# EAGLE library part ATMEGA2560 (library EXCISS)
ATmega2560 256 KB Program Memory 16 MIPS CPU Speed 8 KB RAM 4 KB Data EEPROM Digital Communication Peripherals 4-UART 5-SPI 1-I2C Capture/Compare/PWM Peripherals 4 Input Capture 4 CCP 16PWM Timers 2 x 8-bit 4 x 16-bit 1 Comparator -40°C to 85°C Temperature Range 1.8V to 5.5V Operating Voltage Range Links Datasheet <http://ww1.microchip.com/downloads/en/DeviceDoc/Atmel-2549-8-bit-AVR-Microcontroller-ATmega640-1280-1281-2560-2561_datasheet.pdf> Product website <https://www.microchip.com/wwwproducts/en/ATmega2560>
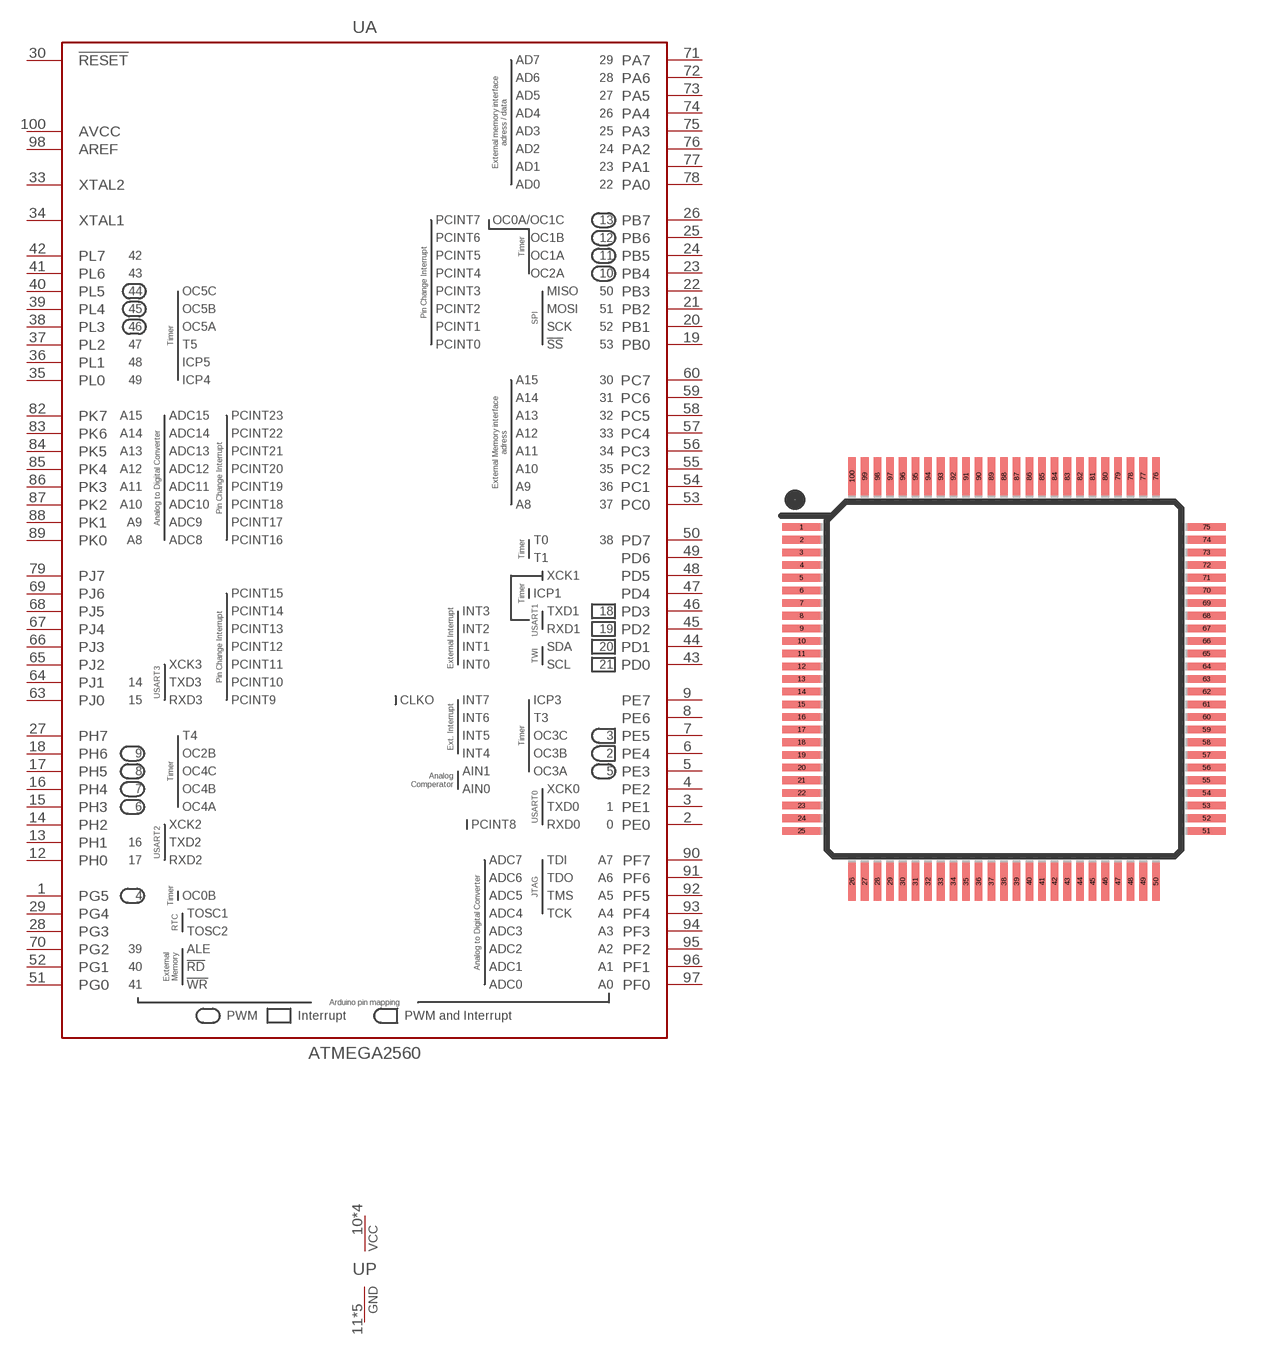
[diagram p10: symbol with the pads of TQFP100; footprint TQFP100]

Designator prefix U; gates A=ATMEGA2560 P=POWER

## ATMEGA2560, ATMEGA2560V (OC_MOUSER: ATMEGA2560V-8AUR)  [TQFP100]
1  A:PG5
2  A:PE0
3  A:PE1
4  A:PE2
5  A:PE3
6  A:PE4
7  A:PE5
8  A:PE6
9  A:PE7
10  P:VCC  pwr
11  P:GND  pwr
12  A:PH0
13  A:PH1
14  A:PH2
15  A:PH3
16  A:PH4
17  A:PH5
18  A:PH6
19  A:PB0
20  A:PB1
21  A:PB2
22  A:PB3
23  A:PB4
24  A:PB5
25  A:PB6
26  A:PB7
27  A:PH7
28  A:PG3
29  A:PG4
30  A:!RESET!  in
31  P:VCC  pwr
32  P:GND  pwr
33  A:XTAL2  out
34  A:XTAL1  in
35  A:PL0
36  A:PL1
37  A:PL2
38  A:PL3
39  A:PL4
40  A:PL5
41  A:PL6
42  A:PL7
43  A:PD0
44  A:PD1
45  A:PD2
46  A:PD3
47  A:PD4
48  A:PD5
49  A:PD6
50  A:PD7
51  A:PG0
52  A:PG1
53  A:PC0
54  A:PC1
55  A:PC2
56  A:PC3
57  A:PC4
58  A:PC5
59  A:PC6
60  A:PC7
61  P:VCC  pwr
62  P:GND  pwr
63  A:PJ0
64  A:PJ1
65  A:PJ2
66  A:PJ3
67  A:PJ4
68  A:PJ5
69  A:PJ6
70  A:PG2
71  A:PA7
72  A:PA6
73  A:PA5
74  A:PA4
75  A:PA3
76  A:PA2
77  A:PA1
78  A:PA0
79  A:PJ7
80  P:VCC  pwr
81  P:GND  pwr
82  A:PK7
83  A:PK6
84  A:PK5
85  A:PK4
86  A:PK3
87  A:PK2
88  A:PK1
89  A:PK0
90  A:PF7
91  A:PF6
92  A:PF5
93  A:PF4
94  A:PF3
95  A:PF2
96  A:PF1
97  A:PF0
98  A:AREF
99  P:GND  pwr
100  A:AVCC  pwr

## Footprint TQFP100 (pad centres in mm)
100-lead Thin Quad Flat Pack Package Outline
smd 1.5 x 0.3: 1 -8,6; 2 -8,5.5; 3 -8,5; 4 -8,4.5; 5 -8,4; 6 -8,3.5; 7 -8,3; 8 -8,2.5; 9 -8,2; 10 -8,1.5; 11 -8,1; 12 -8,0.5; 13 -8,0; 14 -8,-0.5; 15 -8,-1; 16 -8,-1.5; 17 -8,-2; 18 -8,-2.5; 19 -8,-3; 20 -8,-3.5; 21 -8,-4; 22 -8,-4.5; 23 -8,-5; 24 -8,-5.5; 25 -8,-6; 51 8,-6; 52 8,-5.5; 53 8,-5; 54 8,-4.5; 55 8,-4; 56 8,-3.5; 57 8,-3; 58 8,-2.5; 59 8,-2; 60 8,-1.5; 61 8,-1; 62 8,-0.5; 63 8,0; 64 8,0.5; 65 8,1; 66 8,1.5; 67 8,2; 68 8,2.5; 69 8,3; 70 8,3.5; 71 8,4; 72 8,4.5; 73 8,5; 74 8,5.5; 75 8,6
smd 0.3 x 1.5: 26 -6,-8; 27 -5.5,-8; 28 -5,-8; 29 -4.5,-8; 30 -4,-8; 31 -3.5,-8; 32 -3,-8; 33 -2.5,-8; 34 -2,-8; 35 -1.5,-8; 36 -1,-8; 37 -0.5,-8; 38 0,-8; 39 0.5,-8; 40 1,-8; 41 1.5,-8; 42 2,-8; 43 2.5,-8; 44 3,-8; 45 3.5,-8; 46 4,-8; 47 4.5,-8; 48 5,-8; 49 5.5,-8; 50 6,-8; 76 6,8; 77 5.5,8; 78 5,8; 79 4.5,8; 80 4,8; 81 3.5,8; 82 3,8; 83 2.5,8; 84 2,8; 85 1.5,8; 86 1,8; 87 0.5,8; 88 0,8; 89 -0.5,8; 90 -1,8; 91 -1.5,8; 92 -2,8; 93 -2.5,8; 94 -3,8; 95 -3.5,8; 96 -4,8; 97 -4.5,8; 98 -5,8; 99 -5.5,8; 100 -6,8